# Altium schematic symbol library TC2030-MCP-NL.SchLib: 1 symbol
Pins are listed as number, name and electrical type; pins without a type are passive.

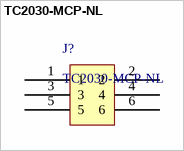
[diagram p0: symbol TC2030-MCP-NL]

## TC2030-MCP-NL
designator J?
TAG CONNECT FOR UPDI
footprint TC2030-MCP-NL (TAG CONNECT - WITH LEGS)
pins: 1, 2, 3, 4, 5, 6